# EAGLE library part LM386 (library monome)
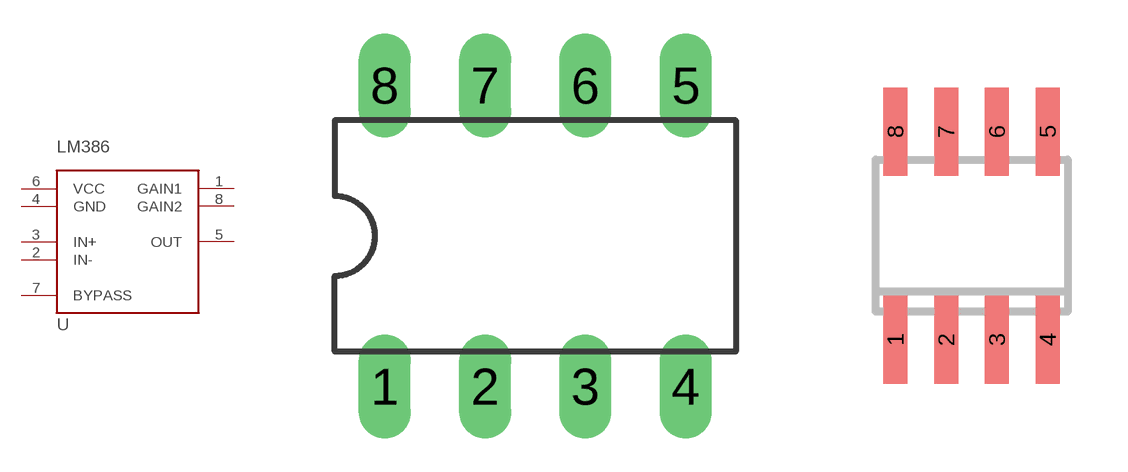
[diagram p6: symbol with the pads of DIL08; footprints DIL08, SO08]

Designator prefix U

## LM386DIP  [DIL08]
1  GAIN1
2  IN-
3  IN+
4  GND  pwr
5  OUT
6  VCC  pwr
7  BYPASS
8  GAIN2

## LM386  [SO08]
Pads as for DIL08

## Footprint DIL08 (pad centres in mm)
Dual In Line Package
drill 0.813 long: 1 -3.81,-3.81; 2 -1.27,-3.81; 3 1.27,-3.81; 4 3.81,-3.81; 5 3.81,3.81; 6 1.27,3.81; 7 -1.27,3.81; 8 -3.81,3.81

## Footprint SO08 (pad centres in mm)
SMALL OUTLINE INTEGRATED CIRCUIT body 3.9 mm/JEDEC MS-012AA
smd 0.6 x 2.2: 1 -1.905,-2.6; 2 -0.635,-2.6; 3 0.635,-2.6; 4 1.905,-2.6; 5 1.905,2.6; 6 0.635,2.6; 7 -0.635,2.6; 8 -1.905,2.6